# EAGLE library part AS6C6416 (library memory-alliance)
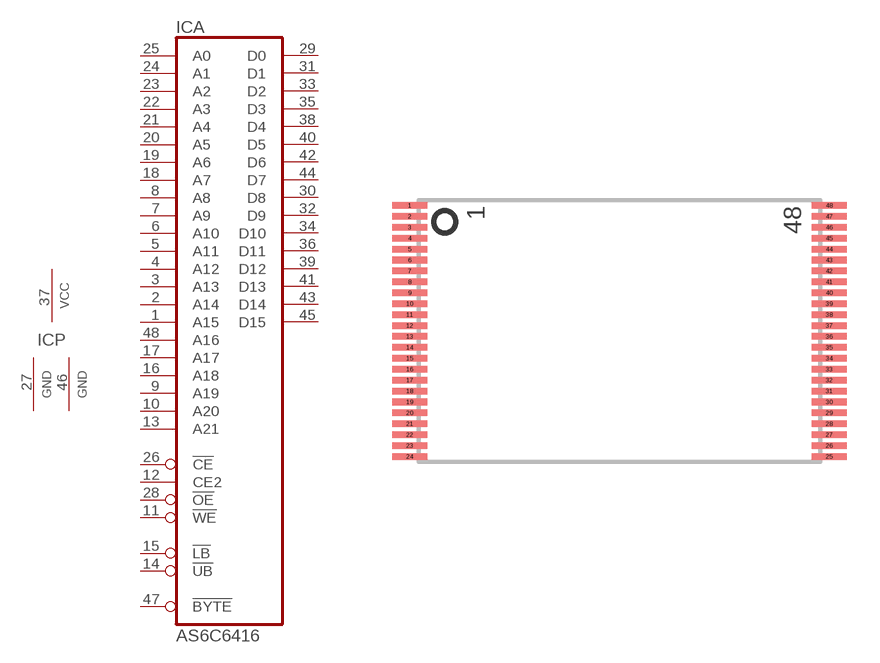
[diagram p6: symbol with the pads of TSOP48; footprint TSOP48]

Designator prefix IC; gates A=AS6C6416 P=PWR1GND2

## AS6C6416  [TSOP48]
1  A:A15  in
2  A:A14  in
3  A:A13  in
4  A:A12  in
5  A:A11  in
6  A:A10  in
7  A:A9  in
8  A:A8  in
9  A:A19  in
10  A:A20  in
11  A:!WE  in
12  A:CE2  in
13  A:A21  in
14  A:!UB  in
15  A:!LB  in
16  A:A18  in
17  A:A17  in
18  A:A7  in
19  A:A6  in
20  A:A5  in
21  A:A4  in
22  A:A3  in
23  A:A2  in
24  A:A1  in
25  A:A0  in
26  A:!CE  in
27  P:GND  pwr
28  A:!OE  in
29  A:D0
30  A:D8
31  A:D1
32  A:D9
33  A:D2
34  A:D10
35  A:D3
36  A:D11
37  P:VCC  pwr
38  A:D4
39  A:D12
40  A:D5
41  A:D13
42  A:D6
43  A:D14
44  A:D7
45  A:D15
46  P:GND  pwr
47  A:!BYTE  in
48  A:A16  in

## Footprint TSOP48 (pad centres in mm)
smd 1.6 x 0.3: 1 -9.6,5.75; 2 -9.6,5.25; 3 -9.6,4.75; 4 -9.6,4.25; 5 -9.6,3.75; 6 -9.6,3.25; 7 -9.6,2.75; 8 -9.6,2.25; 9 -9.6,1.75; 10 -9.6,1.25; 11 -9.6,0.75; 12 -9.6,0.25; 13 -9.6,-0.25; 14 -9.6,-0.75; 15 -9.6,-1.25; 16 -9.6,-1.75; 17 -9.6,-2.25; 18 -9.6,-2.75; 19 -9.6,-3.25; 20 -9.6,-3.75; 21 -9.6,-4.25; 22 -9.6,-4.75; 23 -9.6,-5.25; 24 -9.6,-5.75; 25 9.6,-5.75; 26 9.6,-5.25; 27 9.6,-4.75; 28 9.6,-4.25; 29 9.6,-3.75; 30 9.6,-3.25; 31 9.6,-2.75; 32 9.6,-2.25; 33 9.6,-1.75; 34 9.6,-1.25; 35 9.6,-0.75; 36 9.6,-0.25; 37 9.6,0.25; 38 9.6,0.75; 39 9.6,1.25; 40 9.6,1.75; 41 9.6,2.25; 42 9.6,2.75; 43 9.6,3.25; 44 9.6,3.75; 45 9.6,4.25; 46 9.6,4.75; 47 9.6,5.25; 48 9.6,5.75